# EAGLE library part FM25640B (library Neel)
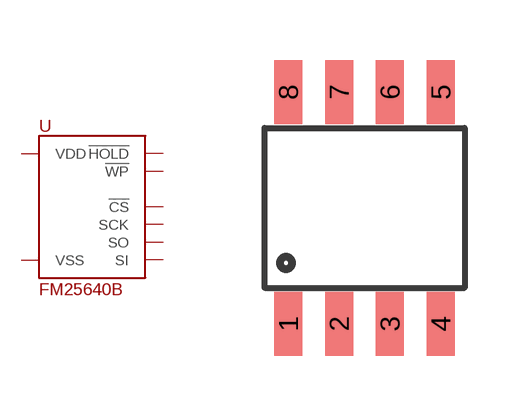
[diagram p60: symbol with the pads of SO-8; footprint SO-8]

Designator prefix -

## FM25640B  [SO-8]
1  !CS
2  SO
3  !WP
4  VSS
5  SI
6  SCK
7  !HOLD
8  VDD

## Footprint SO-8 (pad centres in mm)
smd 0.7 x 1.6: 1 -1.905,-2.9; 2 -0.635,-2.9; 3 0.635,-2.9; 4 1.905,-2.9; 5 1.905,2.9; 6 0.635,2.9; 7 -0.635,2.9; 8 -1.905,2.9